# Altium schematic symbol library R-CRCW0603220RFKEA.Schlib: 1 symbol
Pins are listed as number, name and electrical type; pins without a type are passive.

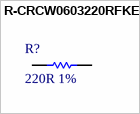
[diagram p0: symbol R-CRCW0603220RFKEA]

## R-CRCW0603220RFKEA
designator R?, comment 220R 1%
Thick Film Resistors - SMD 1/10watt 220ohms 1%
pins: 1, 2